# Altium integrated library Fuses.IntLib: 1 symbol
Pins are listed as number, name and electrical type; pins without a type are passive.

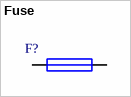
[diagram p0: symbol Fuse]

## Fuse
designator F?
Fuses; VoltageRatingDC: 6V; CurrentRating: 1A
footprint 0603
footprint 0805
footprint 1206
pins: 1, 2